# Altium integrated library Tecotec_GYT_Tx.IntLib: 29 symbols
Pins are listed as number, name and electrical type; pins without a type are passive.

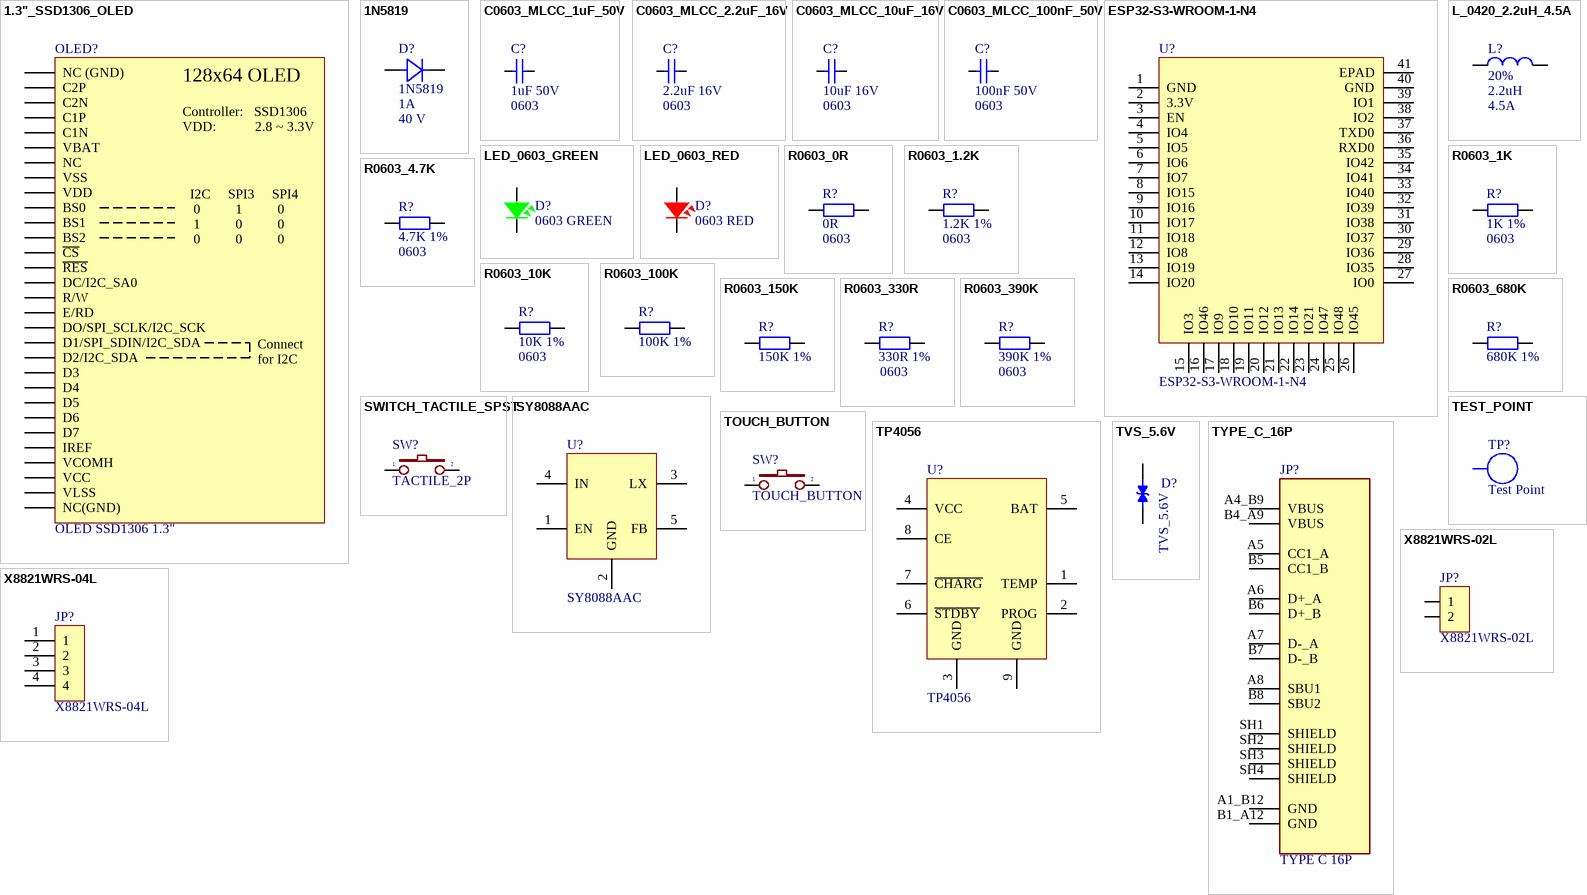
[diagram p0: symbols 1.3"_SSD1306_OLED to X8821WRS-04L]

## 1.3"_SSD1306_OLED
designator OLED?, comment OLED SSD1306 1.3"
SSD1306 1.3 - Organic Light Emitting Diode Display Screen ROHS; Manufacturer: UG(Univision Semicon); Manufacture Part Number: UG-2864KSWLG01; Link: https://www.lcsc.com/product-detail/Organic-Light-Emitting-Diode-Display-Screen_UG-Univision-Semicon-UG-2864KSWLG01_C113322.html; Price: $1.96; ComponentLink1Description: New link; ComponentLink1URL: *; Link 2: https://shopee.vn/M%C3%A0n-h%C3%ACnh-LCD-SUBEI-ssd1306-12864-B%E1%BA%A3ng-m%C3%A0n-h%C3%ACnh-LCD-LCD-m%C3%B4-%C4%91un-m%C3%A0n-h%C3%ACnh-LCD-OLED-1-3-inch-12864-OLED-30PIN-c%C3%B3-th%E1%BB%83-s%E1%BB%AD-d%E1%BB%A5ng-i.293689495.25025709755?sp_atk=b5fb3fe1-8310-4ca9-bbd1-9b1802fa8d8a&xptdk=b5fb3fe1-8310-4ca9-bbd1-9b1802fa8d8a
footprint OLED 1.3
pins: A1 NC (GND), A2 C2P, A3 C2N, A4 C1P, A5 C1N, A6 VBAT, A7 NC, A8 VSS, A9 VDD, A10 BS0, A11 BS1, A12 BS2, A13 ~{CS}, A14 ~{RES}, A15 DC/I2C_SA0, A16 R/W, A17 E/RD, A18 DO/SPI_SCLK/I2C_SCK, A19 D1/SPI_SDIN/I2C_SDA, A20 D2/I2C_SDA, A21 D3, A22 D4, A23 D5, A24 D6, A25 D7, A26 IREF, A27 VCOMH, A28 VCC, A29 VLSS, A30 NC(GND)
text: 128x64 OLED; Controller:   SSD1306 / VDD:           2.8 ~ 3.3V; I2C     SPI3     SPI4 / 0          1          0 / 1          0          0 / 0          0          0 /; Connect for I2C

## 1N5819
designator D?  Current - Average Rectified (Io): 1A  Voltage - DC Reverse (Vr) (Max): 40 V
Diode 40 V 1A Surface Mount SOD-123; Manufacturer: Diodes Incorporated; Manufacture Part Number: 1N5819HW-7-F; Voltage - Forward (Vf) (Max) @ If: 450 mV @ 1 A; Capacitance @ Vr, F: 60pF @ 4V, 1MHz; Packaging: Cut Tape (CT); Link: https://www.digikey.cn/en/products/detail/diodes-incorporated/1N5819HW-7-F/814970; Price: $0.43; Operating Temperature - Junction: -65°C ~ 125°C
footprint DIO-SMD-123
pins: A, C

## C0603_MLCC_1uF_50V
designator C?, comment 1uF 50V  Size: 0603
1 µF ±10% 50V Ceramic Capacitor X5R 0603 (1608 Metric); Manufacturer: Samsung Electro-Mechanics; Manufacture Part Number: CL10A105KB8NNNC; Packaging: Cut Tape (CT); Link: https://www.digikey.cn/en/products/detail/samsung-electro-mechanics/CL10A105KB8NNNC/3887518; Price: $0.14
footprint CAP_SMD_0603
pins: 1, 2

## C0603_MLCC_2.2uF_16V
designator C?, comment 2.2uF 16V  Size: 0603
2.2 µF ±10% 16V Ceramic Capacitor X5R 0603 (1608 Metric); Manufacturer: Samsung Electro-Mechanics; Manufacture Part Number: CL10A225KO8NNNC; Packaging: Cut Tape (CT); Link: https://www.digikey.cn/en/products/detail/samsung-electro-mechanics/CL10A225KO8NNNC/3886698; Price: $0.10
footprint CAP_SMD_0603
pins: 1, 2

## C0603_MLCC_10uF_16V
designator C?, comment 10uF 16V  Size: 0603
10 µF ±20% 16V Ceramic Capacitor X6S 0603 (1608 Metric); Manufacturer: Murata Electronics; Manufacture Part Number: GRM188C81C106MA73D; Packaging: Cut Tape (CT); Link: https://www.digikey.cn/en/products/detail/murata-electronics/GRM188C81C106MA73D/3900463; Price: $0.25
footprint CAP_SMD_0603
pins: 1, 2

## C0603_MLCC_100nF_50V
designator C?, comment 100nF 50V  Size: 0603
0.1 µF ±10% 50V Ceramic Capacitor X7R 0603 (1608 Metric); Manufacturer: Samsung Electro-Mechanics; Manufacture Part Number: CL10B104KB8NNNC; Packaging: Cut Tape (CT); Link: https://www.digikey.cn/en/products/detail/samsung-electro-mechanics/CL10B104KB8NNNC/3886658; Price: $0.10
footprint CAP_SMD_0603
pins: 1, 2

## ESP32-S3-WROOM-1-N4
designator U?
SMD,18x25.5mm WiFi Modules ROHS; Manufacturer: Espressif Systems; Manufacture Part Number: ESP32-S3-WROOM-1-N4; Packaging: Cut Tape (CT); Link: https://www.lcsc.com/product-detail/WiFi-Modules_Espressif-Systems-ESP32-S3-WROOM-1-N4_C2913197.html; Price: $ 3.71
footprint ESP32-S3-WROOM-1
pins: 1 GND, 2 3.3V, 3 EN, 4 IO4, 5 IO5, 6 IO6, 7 IO7, 8 IO15, 9 IO16, 10 IO17, 11 IO18, 12 IO8, 13 IO19, 14 IO20, 15 IO3, 16 IO46, 17 IO9, 18 IO10, 19 IO11, 20 IO12, 21 IO13, 22 IO14, 23 IO21, 24 IO47, 25 IO48, 26 IO45, 27 IO0, 28 IO35, 29 IO36, 30 IO37, 31 IO38, 32 IO39, 33 IO40, 34 IO41, 35 IO42, 36 RXD0, 37 TXD0, 38 IO2, 39 IO1, 40 GND, 41 EPAD

## L_0420_2.2uH_4.5A
designator L?, comment Tolerance: 20%  Inductor: 2.2uH  Current: 4.5A  (hidden comment: 2.2uH 4.5A 20%)
4.5A 2.2uH Molding Choke ±20% 5A SMD,0420 Power Inductors ROHS; Manufacturer: XR; Manufacture Part Number: XR0420-2R2M; Link: https://www.lcsc.com/product-detail/Power-Inductors_XR-XR0420-2R2M_C5307589.html; Price: $ 0.0661
footprint L0420
pins: 1, 2

## LED_0603_GREEN
designator D?, comment 0603 GREEN
Green 520nm LED Indication - Discrete 3.2V 0603 (1608 Metric); Manufacturer: Würth Elektronik; Manufacture Part Number: 150060GS75000; Packaging: Cut Tape (CT); Link: https://www.digikey.cn/en/products/detail/w%C3%BCrth-elektronik/150060GS75000/4489898; Price: $0.15
footprint LED-0603
pins: 1, 2

## LED_0603_RED
designator D?, comment 0603 RED
Red 625nm LED Indication - Discrete 2V 0603 (1608 Metric); Manufacturer: Würth Elektronik; Manufacture Part Number: 150060RS75000; Packaging: Cut Tape (CT); Link: https://www.digikey.cn/en/products/detail/w%C3%BCrth-elektronik/150060RS75000/4489901; Price: $0.15
footprint LED-0603
pins: 1, 2

## R0603_0R
designator R?, comment 0R  Size: 0603
0 Ohms Jumper Chip Resistor 0603 (1608 Metric) Automotive AEC-Q200 Thick Film; Manufacturer: Stackpole Electronics Inc; Manufacture Part Number: RMCF0603ZT0R00; Packaging: Cut Tape (CT); Link: https://www.digikey.cn/en/products/detail/stackpole-electronics-inc/RMCF0603ZT0R00/1756908; Price: $0.10
footprint RES_SMD_0603
pins: 1, 2

## R0603_1.2K
designator R?, comment 1.2K 1%  Size: 0603
1.2 kOhms ±1% 0.1W, 1/10W Chip Resistor 0603 (1608 Metric) Automotive AEC-Q200 Thick Film; Manufacturer: Stackpole Electronics Inc; Manufacture Part Number: RC0603FR-071KL; Packaging: Cut Tape (CT); Link: https://www.digikey.cn/en/products/detail/stackpole-electronics-inc/RMCF0603FT1K20/1761134; Price: $0.10
footprint RES_SMD_0603
pins: 1, 2

## R0603_1K
designator R?, comment 1K 1%  Size: 0603
1 kOhms ±1% 0.1W, 1/10W Chip Resistor 0603 (1608 Metric) Moisture Resistant Thick Film; Manufacturer: YAGEO; Manufacture Part Number: RC0603FR-071KL; Packaging: Cut Tape (CT); Link: https://www.digikey.cn/en/products/detail/yageo/RC0603FR-071KL/726843; Price: $0.10
footprint RES_SMD_0603
pins: 1, 2

## R0603_4.7K
designator R?, comment 4.7K 1%  Size: 0603
4.7 kOhms ±1% 0.1W, 1/10W Chip Resistor 0603 (1608 Metric) Moisture Resistant Thick Film; Manufacturer: YAGEO; Manufacture Part Number: RC0603FR-074K7L; Packaging: Cut Tape (CT); Link: https://www.digikey.com/en/products/detail/yageo/RC0603FR-074K7L/727212; Price: $0.10
footprint RES_SMD_0603
pins: 1, 2

## R0603_10K
designator R?, comment 10K 1%  Size: 0603
10 kOhms ±1% 0.1W, 1/10W Chip Resistor 0603 (1608 Metric) Moisture Resistant Thick Film; Manufacturer: YAGEO; Manufacture Part Number: RC0603FR-0710KL; Packaging: Cut Tape (CT); Link: https://www.digikey.cn/en/products/detail/yageo/RC0603FR-0710KL/726880; Price: $0.10
footprint RES_SMD_0603
pins: 1, 2

## R0603_100K
designator R?, comment 100K 1%
100 kOhms ±1% 0.1W, 1/10W Chip Resistor 0603 (1608 Metric) Moisture Resistant Thick Film; Manufacturer: YAGEO; Manufacture Part Number: RC0603FR-07100KL; Packaging: Cut Tape (CT); Link: https://www.digikey.cn/en/products/detail/yageo/RC0603FR-07100KL/726889; Price: $0.10; Size: 0603
footprint RES_SMD_0603
pins: 1, 2

## R0603_150K
designator R?, comment 150K 1%
150 kOhms ±1% 0.1W, 1/10W Chip Resistor 0603 (1608 Metric) Automotive AEC-Q200 Thick Film; Manufacturer: Vishay Dale; Manufacture Part Number: CRCW0603150KFKEA; Packaging: Cut Tape (CT); Link: https://www.digikey.cn/en/products/detail/vishay-dale/CRCW0603150KFKEA/1174914; Price: $0.10; Size: 0603
footprint RES_SMD_0603
pins: 1, 2

## R0603_330R
designator R?, comment 330R 1%  Size: 0603
330 Ohms ±1% 0.1W, 1/10W Chip Resistor 0603 (1608 Metric) Thick Film; Manufacturer: TE Connectivity Passive Product; Manufacture Part Number: CRG0603F330R; Packaging: Cut Tape (CT); Link: https://www.digikey.cn/en/products/detail/te-connectivity-passive-product/CRG0603F330R/2380765; Price: $0.10
footprint RES_SMD_0603
pins: 1, 2

## R0603_390K
designator R?, comment 390K 1%  Size: 0603
390 kOhms ±1% 0.1W, 1/10W Chip Resistor 0603 (1608 Metric) Moisture Resistant Thick Film; Manufacturer: YAGEO; Manufacture Part Number: RC0603FR-07390KL; Packaging: Cut Tape (CT); Link: https://www.digikey.cn/en/products/detail/yageo/RC0603FR-07390KL/727199; Price: $0.10
footprint RES_SMD_0603
pins: 1, 2

## R0603_680K
designator R?, comment 680K 1%
680 kOhms ±1% 0.1W, 1/10W Chip Resistor 0603 (1608 Metric) Moisture Resistant Thick Film; Manufacturer: YAGEO; Manufacture Part Number: RC0603FR-07680KL; Packaging: Cut Tape (CT); Link: https://www.digikey.cn/en/products/detail/yageo/RC0603FR-07680KL/727356; Price: $0.10; Size: 0603
footprint RES_SMD_0603
pins: 1, 2

## SWITCH_TACTILE_SPST
designator SW?, comment TACTILE_2P
Tactile Switch SPST-NO Top Actuated Surface Mount; Manufacturer: C&K; Manufacture Part Number: PTS636 SM25F SMTR LFS; Packaging: Cut Tape (CT); Link: https://www.digikey.cn/en/products/detail/c-k/PTS636-SM25F-SMTR-LFS/10071742?s=N4IgTCBcDaIAoBUDKA2AzCgBEgsmArAGLY4IBKmAMoUiALoC%2BQA; Price: $0.24
footprint C&K SW 2P
pins: 1, 2

## SY8088AAC
designator U?
Step-down type SOT-23-5 DC-DC Converters ROHS; Manufacturer: Silergy Corp; Manufacture Part Number: SY8088AAC; Link: https://www.lcsc.com/product-detail/DC-DC-Converters_Silergy-Corp-SY8088AAC_C79313.html; Price: $ 0.0865
footprint SOT23_5
pins: 1 EN, 2 GND, 3 LX, 4 IN, 5 FB

## TEST_POINT
designator TP?, comment Test Point
footprint TEST_POINT
pins: 1

## TOUCH_BUTTON
designator SW?
footprint TOUCH_BUTTON
pins: 1, 2

## TP4056
designator U?
ESOP-8 Battery Management ICs ROHS; Manufacturer: UMW(Youtai Semiconductor Co., Ltd.); Manufacture Part Number: TP4056; Packaging: Cut Tape (CT); Link: https://www.lcsc.com/product-detail/Battery-Management-ICs_UMW-Youtai-Semiconductor-Co-Ltd-TP4056_C725790.html; Price: $ 0.0565
footprint ESOP-8
pins: 1 TEMP, 2 PROG, 3 GND, 4 VCC, 5 BAT, 6 ~{STDBY}, 7 ~{CHARG}, 8 CE, 9 GND

## TVS_5.6V
designator D?
9.4A 18.6V 5.6V Bi-Directional 5V SOD-523 Electrostatic and Surge Protection (TVS/ESD) ROHS; Manufacturer: LRC; Manufacture Part Number: LESD5D5.0CT1G; Voltage - Reverse Standoff (Typ): 4V; Voltage - Breakdown (Min): 6V; Voltage - Clamping (Max) @ Ipp: 8V; Packaging: Cut Tape (CT); Link: https://www.lcsc.com/product-detail/New-Arrivals_Leshan-Radio-LESD5D5-0CT1G_C383211.html; Price: $ 0.0149
footprint SOD_523
pins: 1, 2

## TYPE_C_16P
designator JP?, comment TYPE C 16P
USB-C (USB TYPE-C) USB 2.0 Receptacle Connector 24 (16+8 Dummy) Position Surface Mount, Right Angle; Through Hole; Manufacturer: Amphenol ICC (Commercial Products); Manufacture Part Number: 12402012E212A; Packaging: Cut Tape; Link: https://www.digikey.cn/en/products/detail/amphenol-cs-commercial-products/12402012E212A/13683192; Price: $0.79
footprint TYPE C 16P
pins: A1_B12 GND, A4_B9 VBUS, A5 CC1_A, A6 D+_A, A7 D-_A, A8 SBU1, B1_A12 GND, B4_A9 VBUS, B5 CC1_B, B6 D+_B, B7 D-_B, B8 SBU2, SH1 SHIELD, SH2 SHIELD, SH3 SHIELD, SH4 SHIELD

## X8821WRS-02L
designator JP?
1x2P 2P 1 Tin 2.5mm 2 Brass 2A Surface Mount，Right Angle SMD,P=2.5mm,Surface Mount，Right Angle Wire To Board Connector ROHS; Manufacturer: XKB Connection; Manufacture Part Number: X8821WRS-02L-LPSN; Link: https://www.lcsc.com/product-detail/Wire-To-Board-Connector_XKB-Connection-X8821WRS-02L-LPSN_C519150.html; Price: $ 0.0852
footprint CONN_X8821WRS-02L-LPSN
pins: 1, 2

## X8821WRS-04L
designator JP?
1x4P 4P XH 1 Tin 2.5mm 4 3A Brass Surface Mount，Right Angle SMD,P=2.5mm,Surface Mount，Right Angle Wire To Board Connector ROHS; Manufacturer: XKB Connection; Manufacture Part Number: X8821WRS-04-9TSN; Link: https://www.lcsc.com/product-detail/Wire-To-Board-Connector_XKB-Connection-X8821WRS-04-9TSN_C397434.html; Price: $ 0.1564
footprint CONN_X8821WRS-04L-LPSN
pins: 1, 2, 3, 4